# EAGLE library part TSL2591 (library MSMG)
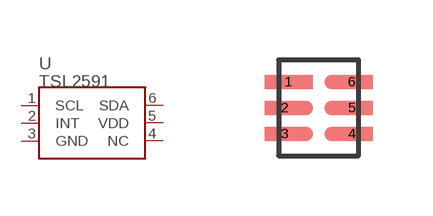
[diagram p5: symbol with the pads of DFN-6; footprint DFN-6]

Designator prefix U

## TSL2591  [DFN-6]
1  SCL
2  INT
3  GND
4  NC
5  VDD
6  SDA

## Footprint DFN-6 (pad centres in mm)
smd 1.2 x 0.35: 1 -0.75,0.65
smd 1.025 x 0.35: 2 -0.838,0; 3 -0.838,-0.65; 4 0.838,-0.65; 5 0.838,0; 6 0.838,0.65